# EAGLE library part HRM1017 (library ble)
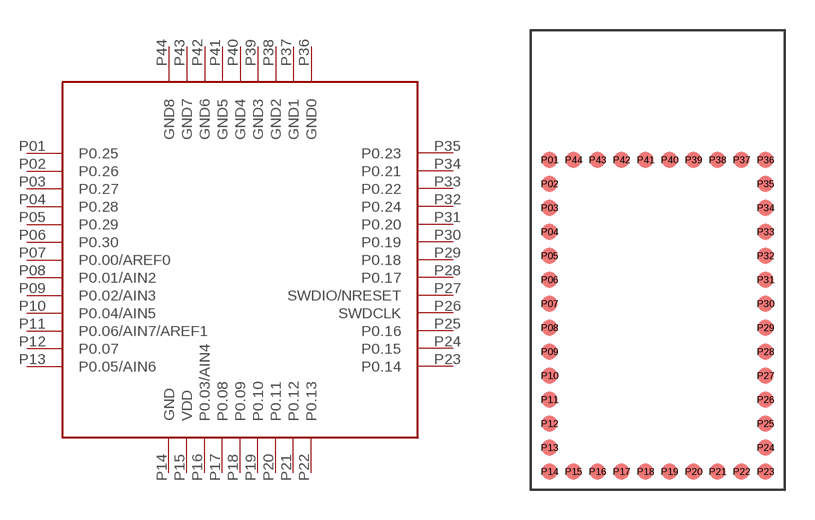
[diagram p0: symbol with the pads of HRM1017; footprint HRM1017]

Designator prefix -

## HRM1017  [HRM1017]
P01  P0.25  in
P02  P0.26  in
P03  P0.27  in
P04  P0.28  in
P05  P0.29  in
P06  P0.30  in
P07  P0.00/AREF0  in
P08  P0.01/AIN2  in
P09  P0.02/AIN3  in
P10  P0.04/AIN5  in
P11  P0.06/AIN7/AREF1  in
P12  P0.07  in
P13  P0.05/AIN6  in
P14  GND  pwr
P15  VDD  pwr
P16  P0.03/AIN4  in
P17  P0.08  in
P18  P0.09  in
P19  P0.10  in
P20  P0.11  in
P21  P0.12  in
P22  P0.13  in
P23  P0.14  in
P24  P0.15  in
P25  P0.16  in
P26  SWDCLK
P27  SWDIO/NRESET  in
P28  P0.17  in
P29  P0.18  in
P30  P0.19  in
P31  P0.20  in
P32  P0.24  in
P33  P0.22  in
P34  P0.21  in
P35  P0.23  in
P36  GND0  pwr
P37  GND1  pwr
P38  GND2  pwr
P39  GND3  pwr
P40  GND4  pwr
P41  GND5  pwr
P42  GND6  pwr
P43  GND7  pwr
P44  GND8  pwr

## Footprint HRM1017 (pad centres in mm)
smd 0.8 x 0.8: P01 0.95,16.5; P02 0.95,15.3; P03 0.95,14.1; P04 0.95,12.9; P05 0.95,11.7; P06 0.95,10.5; P07 0.95,9.3; P08 0.95,8.1; P09 0.95,6.9; P10 0.95,5.7; P11 0.95,4.5; P12 0.95,3.3; P13 0.95,2.1; P14 0.95,0.9; P15 2.15,0.9; P16 3.35,0.9; P17 4.55,0.9; P18 5.75,0.9; P19 6.95,0.9; P20 8.15,0.9; P21 9.35,0.9; P22 10.55,0.9; P23 11.75,0.9; P24 11.75,2.1; P25 11.75,3.3; P26 11.75,4.5; P27 11.75,5.7; P28 11.75,6.9; P29 11.75,8.1; P30 11.75,9.3; P31 11.75,10.5; P32 11.75,11.7; P33 11.75,12.9; P34 11.75,14.1; P35 11.75,15.3; P36 11.75,16.5; P37 10.55,16.5; P38 9.35,16.5; P39 8.15,16.5; P40 6.95,16.5; P41 5.75,16.5; P42 4.55,16.5; P43 3.35,16.5; P44 2.15,16.5